# Altium schematic symbol library opo_v3_sch_parts.SchLib: 1 symbol
Pins are listed as number, name and electrical type; pins without a type are passive.

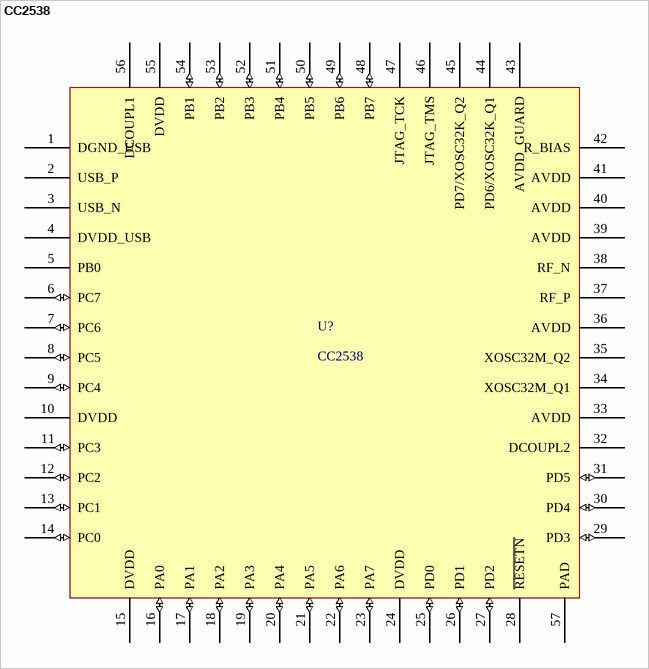
[diagram p0: symbol CC2538]

## CC2538
designator U?
Integrated 802.15.4 radio and ARM Cortex M3 MCU
footprint QFN50P800X800X100_HS-57N (QFN, 56-Leads, Body 8.00x8.00mm, Pitch 0.50mm, Thermal Pad 6.60x6.60mm, IPC Medium Density)
pins: 1 DGND_USB, 2 USB_P, 3 USB_N, 4 DVDD_USB, 5 PB0, 6 PC7 (io), 7 PC6 (io), 8 PC5 (io), 9 PC4 (io), 10 DVDD (power), 11 PC3 (io), 12 PC2 (io), 13 PC1 (io), 14 PC0 (io), 15 DVDD (power), 16 PA0 (io), 17 PA1 (io), 18 PA2 (io), 19 PA3 (io), 20 PA4 (io), 21 PA5 (io), 22 PA6 (io), 23 PA7 (io), 24 DVDD (power), 25 PD0 (io), 26 PD1 (io), 27 PD2 (io), 28 ~{RESETN}, 29 PD3 (io), 30 PD4 (io), 31 PD5 (io), 32 DCOUPL2 (power), 33 AVDD (power), 34 XOSC32M_Q1, 35 XOSC32M_Q2, 36 AVDD (power), 37 RF_P, 38 RF_N, 39 AVDD (power), 40 AVDD (power), 41 AVDD (power), 42 R_BIAS, 43 AVDD_GUARD (power), 44 PD6/XOSC32K_Q1, 45 PD7/XOSC32K_Q2, 46 JTAG_TMS, 47 JTAG_TCK, 48 PB7 (io), 49 PB6 (io), 50 PB5 (io), 51 PB4 (io), 52 PB3 (io), 53 PB2 (io), 54 PB1 (io), 55 DVDD (power), 56 DCOUPL1 (power), 57 PAD